# Altium footprint library RS Components - Capacitors.PcbLib: 3 footprints
Each footprint in its own frame and in the unit in brackets; x right, y up, seen from the top. Pads: shape width x height; smd on the part's side, far side on the other; paste and mask are expansions set on the pad; w line width, h text height; cw(c..) or ccw(c..) is an arc to the next point about the centre after c.
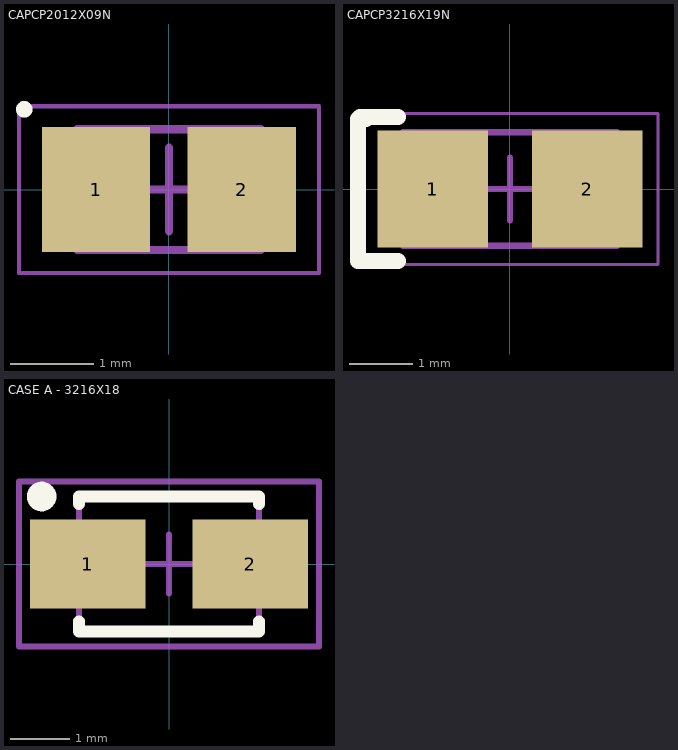
[diagram p0: the footprints below, top view; thin cyan lines are the x and y axes]

## CAPCP2012X09N [mm] "Chip Capacitor, 2-Leads, Body 2.00x1.25mm, IPC Medium Density"
height 0.88
pads (2):
  rect 1.3x1.5 smd: 1(-0.875,0) 2(0.875,0)
Top Overlay:
  circle w0.1: c-1.737,0.962 r0.05
Mechanical 13:
  lines w0.1: -1.1,-0.725 -1.1,0.725 1.1,0.725 1.1,-0.725 -1.1,-0.725
Mechanical 15:
  lines w0.05: -1.8,-1 -1.8,1 1.8,1 1.8,-1 -1.8,-1
  lines w0.1: -0.5,0 0.5,0 ; 0,-0.5 0,0.5
3D body "User Library-0805 SMD Capacitor.step": height 0.78, standoff 0, extent -1.051,-0.574 0.949,0.676

## CAPCP3216X19N [mm] "Chip Capacitor, 2-Leads, Body 3.20x1.60mm, IPC Medium Density"
height 1.88
pads (2):
  rect 1.75x1.85 smd: 1(-1.225,0) 2(1.225,0)
Top Overlay:
  circle w0.1: c-2.312,1.137 r0.05
  lines w0.254: -2.413,1.113 -2.413,-1.143 -1.778,-1.143 ; -2.383,1.143 -1.778,1.143 ; -2.286,1.113 -2.256,1.143
Mechanical 13:
  lines w0.1: -1.7,-0.9 1.7,-0.9 1.7,0.9 -1.7,0.9
Mechanical 15:
  lines w0.05: -2.35,-1.2 -2.35,1.2 2.35,1.2 2.35,-1.2 -2.35,-1.2
  lines w0.1: -0.5,0 0.5,0 ; 0,-0.5 0,0.5
3D body "User Library-CAP_TANT_3216-18_A_case.step": height 1.8, standoff 0, extent -1.7,-0.875 1.7,0.925

## CASE A - 3216X18 [mm] "Molded Capacitor, 2-Leads, Body 3.2x1.6mm, IPC Medium Density"
height 1.8
pads (2):
  rect 1.95x1.5 smd: 1(-1.375,0) 2(1.375,0)
Top Overlay:
  circle w0.25: c-2.157,1.143 r0.125
  lines w0.2: -1.524,-0.968 -1.524,-1.143 1.524,-1.143 1.524,-0.968 ; -1.524,1.016 -1.524,1.143 1.524,1.143 1.524,1.016
Mechanical 13:
  lines w0.1: -1.524,-1.143 -1.524,1.143 1.524,1.143 1.524,-1.143 -1.524,-1.143
Mechanical 15:
  lines w0.1: -0.5,0 0.5,0 ; 0,-0.5 0,0.5 ; -2.54,-1.397 -2.54,1.397 2.54,1.397 2.54,-1.397 -2.54,-1.397
3D body "SW3dPS-A Case SMT Capacitor.STEP": height 1.77, standoff 0.17, extent -1.524,-0.762 1.65,0.838